# Altium schematic symbol library TC2050-IDC-NL.SchLib: 1 symbol
Pins are listed as number, name and electrical type; pins without a type are passive.

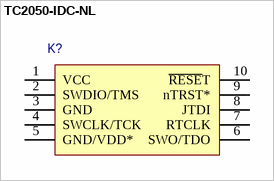
[diagram p0: symbol TC2050-IDC-NL]

## TC2050-IDC-NL
designator K?
pins: 1 VCC, 2 SWDIO/TMS, 3 GND, 4 SWCLK/TCK, 5 GND/VDD*, 6 SWO/TDO, 7 RTCLK, 8 JTDI, 9 nTRST*, 10 ~{RESE}T